# Altium footprint library DLW32SH101XK2L.PcbLib: 1 footprints
Each footprint in its own frame and in the unit in brackets; x right, y up, seen from the top. Pads: shape width x height; smd on the part's side, far side on the other; paste and mask are expansions set on the pad; w line width, h text height; cw(c..) or ccw(c..) is an arc to the next point about the centre after c.
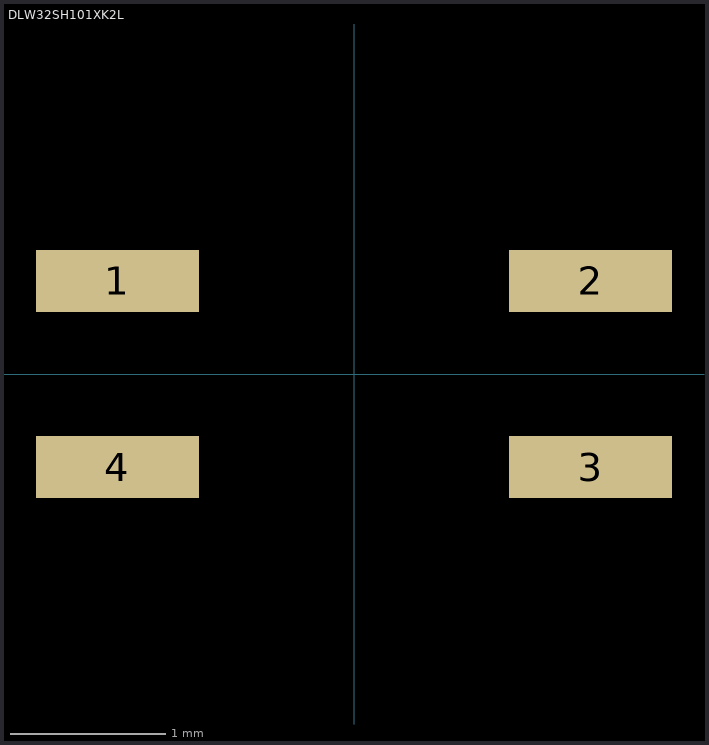
[diagram p0: the footprint, top view; thin cyan lines are the x and y axes]

## DLW32SH101XK2L [mm] "Common Mode Chokes / Filters 1210 80VDC 100uH 150mA AEC-Q200 / 1210"
pads (4):
  rect 1.05x0.4 smd: 1(-1.525,0.6) 2(1.525,0.6) 3(1.525,-0.6) 4(-1.525,-0.6)
3D body "User Library-Common Mode Choke.STEP": height 1.99, standoff 0, extent -1.604,-0.807 1.604,0.807